# Altium footprint library Flow_Pump显示板.PcbLib: 70 footprints (part 5 of 5)
Each footprint in its own frame and in the unit in brackets; x right, y up, seen from the top. Pads: shape width x height; smd on the part's side, far side on the other; paste and mask are expansions set on the pad; w line width, h text height; cw(c..) or ccw(c..) is an arc to the next point about the centre after c.
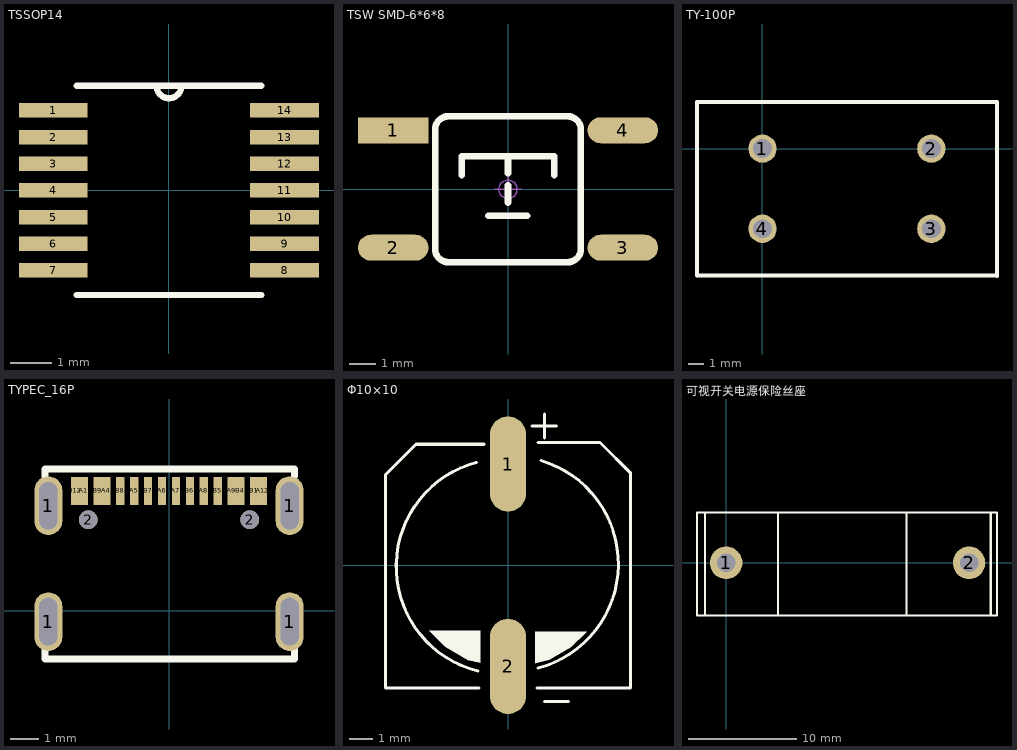
[diagram p4: the footprints below, top view; thin cyan lines are the x and y axes]

## TSSOP14 [mil]
height 29.53
pads (14):
  rect 66x14 smd: 1(-111,76.77) 2(-111,51.18) 3(-111,25.59) 4(-111,0) 5(-111,-25.59) 6(-111,-51.18) 7(-111,-76.77) 8(111,-76.77) 9(111,-51.18) 10(111,-25.59) 11(111,0) 12(111,25.59) 13(111,51.18) 14(111,76.77)
Top Overlay:
  lines w6: -88.5,-100.5 88.5,-100.5 ; -88.5,100.5 88.5,100.5 ; -12,100.5 ccw(c0,100.5) 12,100.5

## TSW SMD-6*6*8 [mm] "6*6*8mm"
pads (4):
  rect 2.7x1 smd: 1(-4.4,2.261)
  oval 2.7x1 smd: 2(-4.4,-2.239) 3(4.4,-2.239) 4(4.4,2.261)
Top Overlay:
  lines w0.254: -1.778,0.533 -1.778,1.27 1.778,1.27 1.778,0.533 ; -0.762,-1.016 0.737,-1.016 ; 0,-0.508 0,0.152 ; 0,0.61 0,1.27 ; -2.794,-2.286 ccw(c-2.286,-2.286) -2.286,-2.794 2.286,-2.794 ccw(c2.286,-2.286) 2.794,-2.286 2.794,2.286 ccw(c2.286,2.286) 2.286,2.794 -2.286,2.794 ccw(c-2.286,2.286) -2.794,2.286 -2.794,-2.286
Mechanical 15:
  circle w0.05: c0,0 r0.35
  lines w0.05: -0.5,0 0.5,0 ; 0,-0.5 0,0.5
3D body "TSW SMD-6x6x8.STEP": height 7.95, standoff -0.03, extent -4.5,-3 4.5,3

## TY-100P [mm]
height 0.75
pads (4):
  round 1.8 hole 1.2: 1(0,0) 2(10.7,0) 3(10.7,-5.08) 4(0,-5.08)
Top Overlay:
  lines w0.254: 14.85,-8.04 -4.15,-8.04 -4.15,2.96 14.85,2.96 ; 14.859,-8.079 14.859,2.921

## TYPEC_16P [mm]
height 0.75
pads (22):
  oval 1x2.1 hole 0.65 slot 1.7 at 90 deg: 1(-4.32,-0.391) 1(-4.32,3.759) 1(4.32,-0.391) 1(4.32,3.759)
  round 0.67 hole 0.67: 2(-2.89,3.259) 2(2.89,3.259)
  rect 0.3x1 smd: A1(-3.05,4.293) A4(-2.25,4.293) A5(-1.25,4.293) A6(-0.25,4.293) A7(0.25,4.293) A8(1.25,4.293) A9(2.25,4.293) A12(3.35,4.293) B1(3.05,4.293) B4(2.55,4.293) B5(1.75,4.293) B6(0.75,4.293) B7(-0.75,4.293) B8(-1.75,4.293) B9(-2.55,4.293) B12(-3.35,4.293)
Top Overlay:
  lines w0.254: -4.445,-1.219 -4.445,-1.727 4.495,-1.727 4.495,-1.193 ; -4.445,4.801 -4.445,5.073 4.495,5.073 4.495,4.825

## Φ10×10 [mm]
height 0.75
pads (2):
  oval 1.524x4 smd: 1(0,4.25) 2(0,-4.25)
Top Overlay:
  region: 1.143,-2.794 1.143,-4.115 2.464,-2.794
  region: 1.143,-4.115 2.464,-2.794 3.302,-2.794
  region: 3.302,-2.794 2.642,-3.454 2.222,-3.454
  region: 2.642,-3.454 2.235,-3.454 1.727,-3.962
  region: 1.727,-3.962 2.235,-3.454 1.803,-3.454 1.143,-4.115
  region: -1.156,-2.756 -1.156,-4.102 -2.502,-2.756
  region: -1.156,-4.102 -2.502,-2.756 -3.315,-2.756
  region: -2.235,-3.429 -2.642,-3.429 -3.315,-2.756
  region: -2.642,-3.429 -2.235,-3.429 -1.664,-4
  region: -1.664,-4 -2.235,-3.429 -1.829,-3.429 -1.156,-4.102
  lines w0.127: -5.15,3.81 -5.15,-5.15 -1.213,-5.15 ; -5.137,3.81 -3.867,5.08 -1.016,5.08 ; -1.33,4.314 ccw(c-0.173,-0.058) -1.27,-4.445 ; 1.016,5.842 2.032,5.842 ; 1.213,-5.15 5.15,-5.15 5.15,3.867 3.867,5.15 1.27,5.15 ; 1.27,-4.318 ccw(c0.113,0.054) 1.389,4.392 ; 1.524,-5.715 2.54,-5.715 ; 1.524,5.334 1.524,6.35

## 可视开关电源保险丝座 [mm]
height 1.55
pads (2):
  round 3 hole 1.7: 1(0,0) 2(22.4,0)
Top Overlay:
  lines w0.2: -1.947,-4.863 -1.947,4.641 ; 4.784,-4.842 4.784,4.62 ; 16.637,-4.842 16.637,4.62 ; 24.405,-4.8 24.405,4.641 ; -2.688,-4.863 24.977,-4.863 24.977,4.641 -2.688,4.641 -2.688,-4.863